# Altium integrated library LQM18DN100M70L.IntLib: 1 symbol
Pins are listed as number, name and electrical type; pins without a type are passive.

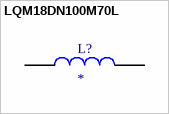
[diagram p0: symbol LQM18DN100M70L]

## LQM18DN100M70L
designator L?
Inductor with Inductance 10uH Tol.+/-20% Package 0603 (1608); MF: Murata Electronics; MP: LQM18DN100M70L; SnapEDA_Link: https://www.snapeda.com/parts/LQM18DN100M70L/Murata/view-part/?ref=snap; Package: 0603 Murata; Value: *; Check_prices: https://www.snapeda.com/parts/LQM18DN100M70L/Murata/view-part/?ref=eda
footprint INDC1608X95N
pins: 1, 2